# EAGLE library part 1364 (library TES)
TES1364 HVPS Horizontal module
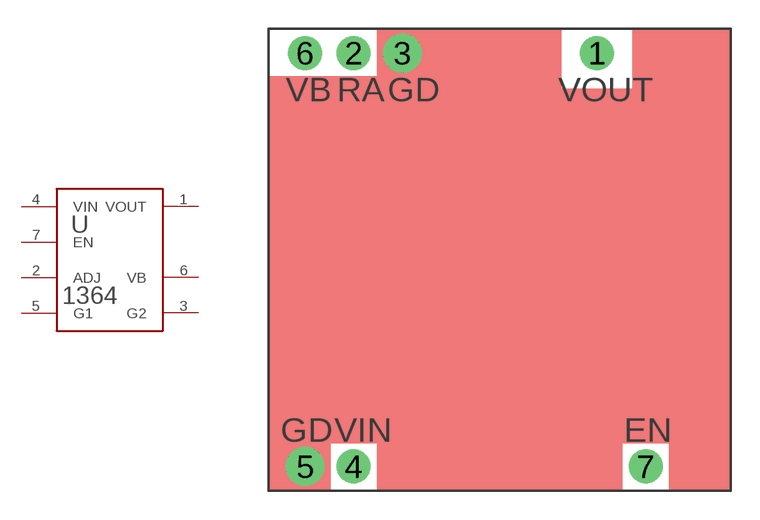
[diagram p0: symbol with the pads of 1364; footprint 1364]

Designator prefix -

## 1364  [1364]
1  VOUT  pas
2  ADJ  pas
3  G2  pas
4  VIN  pas
5  G1  pas
6  VB  pas
7  EN  pas

## Footprint 1364 (pad centres in mm)
drill 1.067 pad 1.778 round: 1 5.08,10.795; 2 -7.62,10.795; 4 -7.62,-10.795; 6 -10.16,10.795; 7 7.62,-10.795
drill 1.067 pad 2.032 round: 3 -5.08,10.795; 5 -10.16,-10.795